# EAGLE library part JTAG_HEADER (library TI)
TI 14-pin JTAG header Reference: http://processors.wiki.ti.com/index.php/JTAG_Connectors
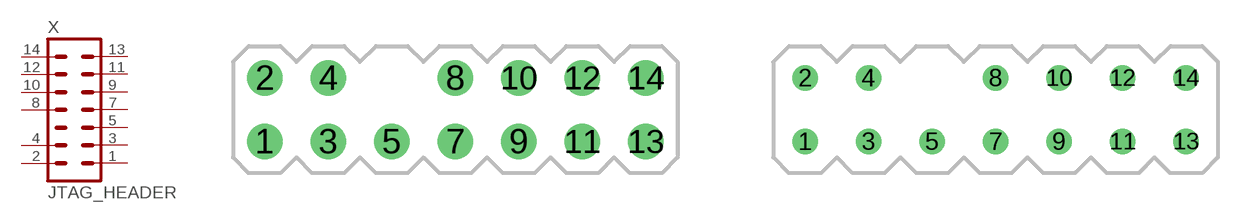
[diagram p8: symbol with the pads of TI_JTAG_HEADER; footprints TI_JTAG_HEADER, TI_JTAG_HEADER_POGO]

Designator prefix X

## JTAG_HEADER  [TI_JTAG_HEADER]
1  TMS  pas
2  !TRST  pas
3  TDI  pas
4  GND  pas
5  VTREF  pas
7  TDO  pas
8  GND  pas
9  TCK  pas
10  GND  pas
11  11  pas
12  GND  pas
13  EMU0  pas
14  EMU1  pas

## JTAG_HEADER-POGO  [TI_JTAG_HEADER_POGO]
Pads as for TI_JTAG_HEADER

## JTAG_HEADER-0.05"-SMT-VERT (PARTNO: FTS-107-01-F-DV)  [TI_JTAG_HEADER_0.05"_SMT]
1  TMS  pas
2  !TRST  pas
3  TDI  pas
4  GND  pas
5  VTREF  pas
7  TDO  pas
8  GND  pas
9  TCK  pas
10  GND  pas
11  11  pas
12  GND  pas
13  EMU0  pas
14  EMU1  pas

## Footprint TI_JTAG_HEADER (pad centres in mm)
drill 0.914 round: 1 -7.62,-1.27; 2 -7.62,1.27; 3 -5.08,-1.27; 4 -5.08,1.27; 5 -2.54,-1.27; 7 0,-1.27; 8 0,1.27; 9 2.54,-1.27; 10 2.54,1.27; 11 5.08,-1.27; 12 5.08,1.27; 13 7.62,-1.27; 14 7.62,1.27

## Footprint TI_JTAG_HEADER_POGO (pad centres in mm)
The TI JTAG header, but with pogo pins. Pogo pins are Milli-Max 0908-2-15-20-75-14-11-0.
drill 0.508 round: 1 -7.62,-1.27; 2 -7.62,1.27; 3 -5.08,-1.27; 4 -5.08,1.27; 5 -2.54,-1.27; 7 0,-1.27; 8 0,1.27; 9 2.54,-1.27; 10 2.54,1.27; 11 5.08,-1.27; 12 5.08,1.27; 13 7.62,-1.27; 14 7.62,1.27

## Footprint TI_JTAG_HEADER_0.05"_SMT (pad centres in mm)
TI 14-pin JTAG header, 0.05" pitch, SMT, vertical Footprint for Samtec FTS-107-01-F-DV. Datasheet: http://www.farnell.com/datasheets/1596287.pdf Footprint: http://www.samtec.com/Prints/FTS-1XX-XX-XX-DX-XX-FOOTPRINT.pdf Mating connectors are, e.g., CNC Tech 3230-14-0101-00 (keepout zone for mating connector is based on this footprint).
smd 0.737 x 2.794: 1 -3.81,-2.032; 2 -3.81,2.032; 3 -2.54,-2.032; 4 -2.54,2.032; 5 -1.27,-2.032; 7 0,-2.032; 8 0,2.032; 9 1.27,-2.032; 10 1.27,2.032; 11 2.54,-2.032; 12 2.54,2.032; 13 3.81,-2.032; 14 3.81,2.032